# EAGLE library part STM32F042 (library .my_elements)
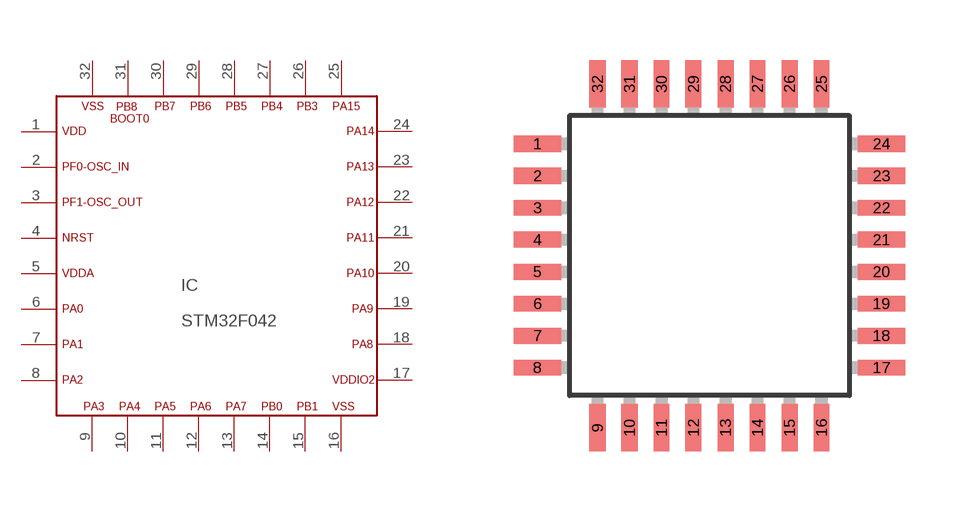
[diagram p0: symbol with the pads of LQFP32-7X7; footprint LQFP32-7X7]

Designator prefix IC

## STM32F042K6T6  [LQFP32-7X7]
1  VDD  pwr
2  PF0-OSC_IN
3  PF1-OSC_OUT
4  NRST
5  VDDA  pwr
6  PA0
7  PA1
8  PA2
9  PA3
10  PA4
11  PA5
12  PA6
13  PA7
14  PB0
15  PB1
16  VSS1  pwr
17  VDDIO2  pwr
18  PA8
19  PA9
20  PA10
21  PA11
22  PA12
23  PA13
24  PA14
25  PA15
26  PB3
27  PB4
28  PB5
29  PB6
30  PB7
31  PB8-BOOT0
32  VSS2  pwr

## Footprint LQFP32-7X7 (pad centres in mm)
LQFP-32 package 7x7 mm case, 0.8 mm lead pitch Sourced: Data sheet <http://www.st.com/stonline/products/literature/ds/14771/stm8s105c4.pdf>
smd 1.2 x 0.4: 1 -4.3,2.8; 2 -4.3,2; 3 -4.3,1.2; 4 -4.3,0.4; 5 -4.3,-0.4; 6 -4.3,-1.2; 7 -4.3,-2; 8 -4.3,-2.8; 17 4.3,-2.8; 18 4.3,-2; 19 4.3,-1.2; 20 4.3,-0.4; 21 4.3,0.4; 22 4.3,1.2; 23 4.3,2; 24 4.3,2.8
smd 0.4 x 1.2: 9 -2.8,-4.3; 10 -2,-4.3; 11 -1.2,-4.3; 12 -0.4,-4.3; 13 0.4,-4.3; 14 1.2,-4.3; 15 2,-4.3; 16 2.8,-4.3; 25 2.8,4.3; 26 2,4.3; 27 1.2,4.3; 28 0.4,4.3; 29 -0.4,4.3; 30 -1.2,4.3; 31 -2,4.3; 32 -2.8,4.3